# EAGLE library part TJ1513MTBD (library df4iah_gps)
TJ1513MTBD based on MediaTek MT3333 Many brands like: MediaTek, SkyLab, T.JWL and others GNSS Receiver Module for GPS, QZSS, Galileo and Beidou data entry: 2015-04-08 by DF4IAH.
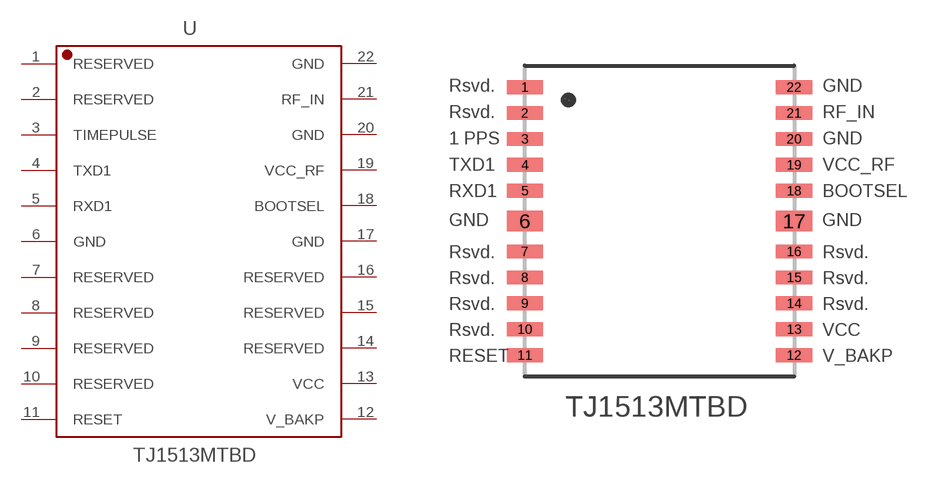
[diagram p1: symbol with the pads of TJ1513MTBD; footprint TJ1513MTBD]

Designator prefix U

## TJ1513MTBD (OC_ALIBABA: TJ1513MTBD; OC_FARNELL: -; OC_NEWARK: -)  [TJ1513MTBD]
1  RESERVED  nc
2  RESERVED  nc
3  TIMEPULSE  out
4  TXD1  out
5  RXD1  in
6  GND  pwr
7  RESERVED  nc
8  RESERVED  nc
9  RESERVED  nc
10  RESERVED  nc
11  RESET  pas
12  V_BAKP  pwr
13  VCC  pwr
14  RESERVED  nc
15  RESERVED  nc
16  RESERVED  nc
17  GND  pwr
18  BOOTSEL  in
19  VCC_RF  out
20  GND  pwr
21  RF_IN  in
22  GND  pwr

## Footprint TJ1513MTBD (pad centres in mm)
TJ1513MTBD based on MediaTek MT3333 Many brands like: MediaTek, SkyLab, T.JWL and others GNSS Receiver Module for GPS, QZSS, Galileo and Beidou data entry: 2015-04-08 by DF4IAH.
smd 1.75 x 0.667: 1 -6.35,6.58; 2 -6.35,5.33; 3 -6.35,4.08; 4 -6.35,2.83; 5 -6.35,1.58; 7 -6.35,-1.35; 8 -6.35,-2.6; 9 -6.35,-3.85; 10 -6.35,-5.1; 11 -6.35,-6.35; 12 6.65,-6.35; 13 6.65,-5.1; 14 6.65,-3.85; 15 6.65,-2.6; 16 6.65,-1.35; 18 6.65,1.58; 19 6.65,2.83; 20 6.65,4.08; 21 6.65,5.33; 22 6.65,6.58
smd 1.75 x 1: 6 -6.35,0.12; 17 6.65,0.12